# Altium footprint library imx8mnano.PcbLib: 17 footprints (part 2 of 2)
Each footprint in its own frame and in the unit in brackets; x right, y up, seen from the top. Pads: shape width x height; smd on the part's side, far side on the other; paste and mask are expansions set on the pad; w line width, h text height; cw(c..) or ccw(c..) is an arc to the next point about the centre after c.
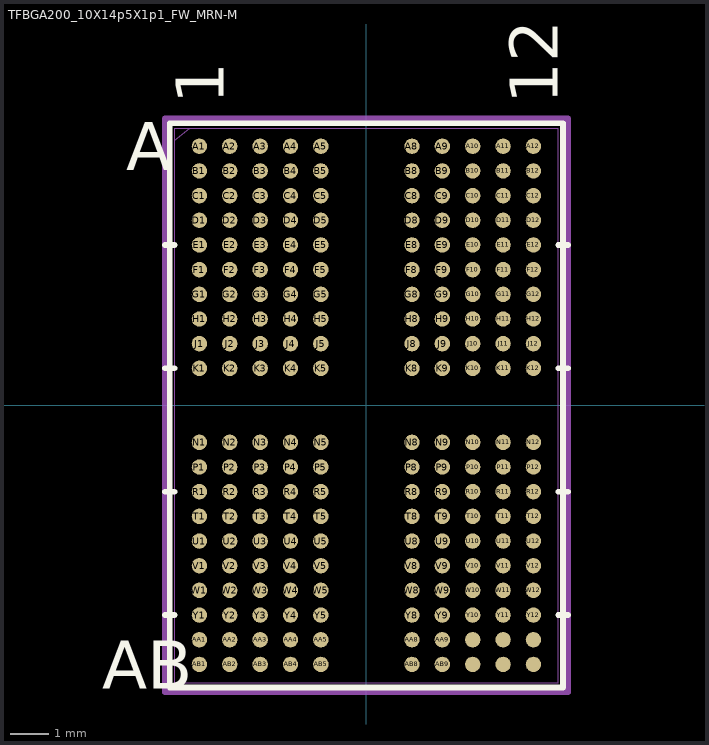
[diagram p1: the footprint, top view; thin cyan lines are the x and y axes]

## TFBGA200_10X14p5X1p1_FW_MRN-M [mil]
pads (200):
  round 16 smd paste+0 mask+0: A1(-173.23,268.69) A2(-141.73,268.69) A3(-110.24,268.69) A4(-78.74,268.69) A5(-47.24,268.69) A8(47.24,268.69) A9(78.74,268.69) A10(110.24,268.69) A11(141.73,268.69) A12(173.23,268.69) AA1(-173.23,-243.1) AA2(-141.73,-243.1) AA3(-110.24,-243.1) AA4(-78.74,-243.1) AA5(-47.24,-243.1) AA8(47.24,-243.1) AA9(78.74,-243.1) AA10(110.24,-243.1) AA11(141.73,-243.1) AA12(173.23,-243.1) AB1(-173.23,-268.69) AB2(-141.73,-268.69) AB3(-110.24,-268.69) AB4(-78.74,-268.69) AB5(-47.24,-268.69) AB8(47.24,-268.69) AB9(78.74,-268.69) AB10(110.24,-268.69) AB11(141.73,-268.69) AB12(173.23,-268.69) B1(-173.23,243.1) B2(-141.73,243.1) B3(-110.24,243.1) B4(-78.74,243.1) B5(-47.24,243.1) B8(47.24,243.1) B9(78.74,243.1) B10(110.24,243.1) B11(141.73,243.1) B12(173.23,243.1) C1(-173.23,217.51) C2(-141.73,217.51) C3(-110.24,217.51) C4(-78.74,217.51) C5(-47.24,217.51) C8(47.24,217.51) C9(78.74,217.51) C10(110.24,217.51) C11(141.73,217.51) C12(173.23,217.51) D1(-173.23,191.93) D2(-141.73,191.93) D3(-110.24,191.93) D4(-78.74,191.93) D5(-47.24,191.93) D8(47.24,191.93) D9(78.74,191.93) D10(110.24,191.93) D11(141.73,191.93) D12(173.23,191.93) E1(-173.23,166.34) E2(-141.73,166.34) E3(-110.24,166.34) E4(-78.74,166.34) E5(-47.24,166.34) E8(47.24,166.34) E9(78.74,166.34) E10(110.24,166.34) E11(141.73,166.34) E12(173.23,166.34) F1(-173.23,140.75) F2(-141.73,140.75) F3(-110.24,140.75) F4(-78.74,140.75) F5(-47.24,140.75) F8(47.24,140.75) F9(78.74,140.75) F10(110.24,140.75) F11(141.73,140.75) F12(173.23,140.75) G1(-173.23,115.16) G2(-141.73,115.16) G3(-110.24,115.16) G4(-78.74,115.16) G5(-47.24,115.16) G8(47.24,115.16) G9(78.74,115.16) G10(110.24,115.16) G11(141.73,115.16) G12(173.23,115.16) H1(-173.23,89.56) H2(-141.73,89.56) H3(-110.24,89.56) H4(-78.74,89.56) H5(-47.24,89.56) H8(47.24,89.56) H9(78.74,89.56) H10(110.24,89.56) H11(141.73,89.56) H12(173.23,89.56) J1(-173.23,63.98) J2(-141.73,63.98) J3(-110.24,63.98) J4(-78.74,63.98) J5(-47.24,63.98) J8(47.24,63.98) J9(78.74,63.98) J10(110.24,63.98) J11(141.73,63.98) J12(173.23,63.98) K1(-173.23,38.38) K2(-141.73,38.38) K3(-110.24,38.38) K4(-78.74,38.38) K5(-47.24,38.38) K8(47.24,38.38) K9(78.74,38.38) K10(110.24,38.38) K11(141.73,38.38) K12(173.23,38.38) N1(-173.23,-38.38) N2(-141.73,-38.38) N3(-110.24,-38.38) N4(-78.74,-38.38) N5(-47.24,-38.38) N8(47.24,-38.38) N9(78.74,-38.38) N10(110.24,-38.38) N11(141.73,-38.38) N12(173.23,-38.38) P1(-173.23,-63.98) P2(-141.73,-63.98) P3(-110.24,-63.98) P4(-78.74,-63.98) P5(-47.24,-63.98) P8(47.24,-63.98) P9(78.74,-63.98) P10(110.24,-63.98) P11(141.73,-63.98) P12(173.23,-63.98) R1(-173.23,-89.56) R2(-141.73,-89.56) R3(-110.24,-89.56) R4(-78.74,-89.56) R5(-47.24,-89.56) R8(47.24,-89.56) R9(78.74,-89.56) R10(110.24,-89.56) R11(141.73,-89.56) R12(173.23,-89.56) T1(-173.23,-115.16) T2(-141.73,-115.16) T3(-110.24,-115.16) T4(-78.74,-115.16) T5(-47.24,-115.16) T8(47.24,-115.16) T9(78.74,-115.16) T10(110.24,-115.16) T11(141.73,-115.16) T12(173.23,-115.16) U1(-173.23,-140.75) U2(-141.73,-140.75) U3(-110.24,-140.75) U4(-78.74,-140.75) U5(-47.24,-140.75) U8(47.24,-140.75) U9(78.74,-140.75) U10(110.24,-140.75) U11(141.73,-140.75) U12(173.23,-140.75) V1(-173.23,-166.34) V2(-141.73,-166.34) V3(-110.24,-166.34) V4(-78.74,-166.34) V5(-47.24,-166.34) V8(47.24,-166.34) V9(78.74,-166.34) V10(110.24,-166.34) V11(141.73,-166.34) V12(173.23,-166.34) W1(-173.23,-191.93) W2(-141.73,-191.93) W3(-110.24,-191.93) W4(-78.74,-191.93) W5(-47.24,-191.93) W8(47.24,-191.93) W9(78.74,-191.93) W10(110.24,-191.93) W11(141.73,-191.93) W12(173.23,-191.93) Y1(-173.23,-217.51) Y2(-141.73,-217.51) Y3(-110.24,-217.51) Y4(-78.74,-217.51) Y5(-47.24,-217.51) Y8(47.24,-217.51) Y9(78.74,-217.51) Y10(110.24,-217.51) Y11(141.73,-217.51) Y12(173.23,-217.51)
Top Overlay:
  lines w6: -209,-217.51 -199,-217.51 ; -209,-89.56 -199,-89.56 ; -209,38.39 -199,38.39 ; -209,166.34 -199,166.34 ; 199,-217.51 209,-217.51 ; 199,-89.56 209,-89.56 ; 199,38.39 209,38.39 ; 199,166.34 209,166.34 ; -204,-292.5 204,-292.5 204,292.5 -204,292.5 -204,-292.5
  text "A" at -249,243.69 h50
  text "AB" at -274,-293.69 h50
  text "1" at -148.23,312.5 h50
  text "12" at 198.23,312.5 h50
Bottom Overlay:
  text "A" at -224,243.69 h50
  text "AB" at -224,-293.69 h50
  text "1" at -198.23,312.5 h50
  text "12" at 148.23,312.5 h50
Mechanical 13:
  lines w1: -199,274.7 -183.25,287.5 ; -199,-287.5 199,-287.5 199,287.5 -199,287.5 -199,-287.5
  text "A" at -249,243.69 h50
  text "AB" at -274,-293.69 h50
  text "1" at -148.23,312.5 h50
  text "12" at 198.23,312.5 h50
Mechanical 15:
  lines w6: -209,-297.5 -209,297.5 209,297.5 209,-297.5 -209,-297.5